# Altium schematic symbol library JSM1A-12V-5 15A.SchLib: 1 symbol
Pins are listed as number, name and electrical type; pins without a type are passive.

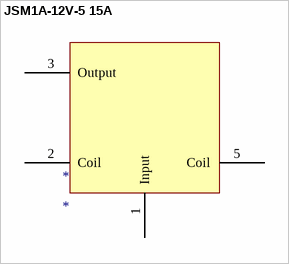
[diagram p0: symbol JSM1A-12V-5 15A]

## JSM1A-12V-5 15A
designator *
15A Relay 255-2815-ND
footprint JSM1A-12V-5 15A; pin to pad 1>5 3>1 5>3
pins: 1 Input, 2 Coil, 3 Output, 5 Coil